# Altium footprint library TerminalBlock_Phoenix.PcbLib: 114 footprints (part 1 of 8)
Each footprint in its own frame and in the unit in brackets; x right, y up, seen from the top. Pads: shape width x height; smd on the part's side, far side on the other; paste and mask are expansions set on the pad; w line width, h text height; cw(c..) or ccw(c..) is an arc to the next point about the centre after c.
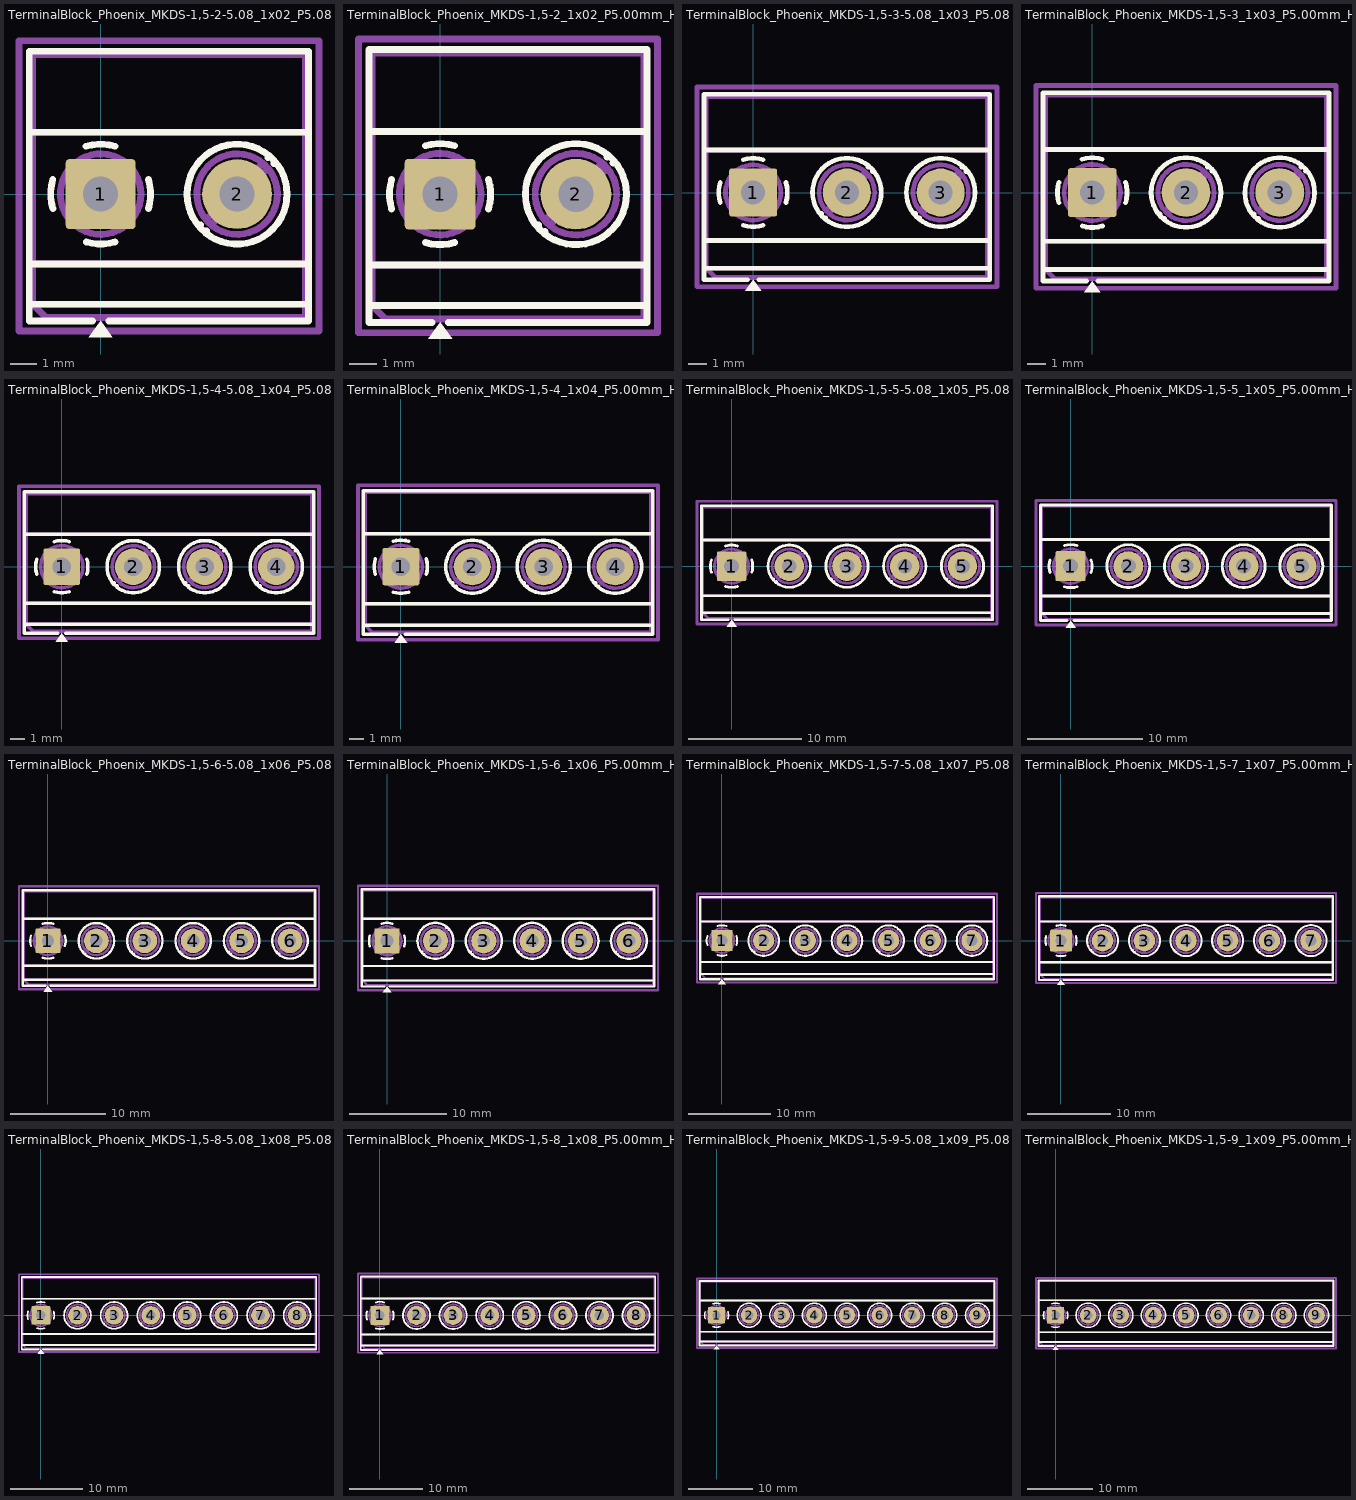
[diagram p0: the footprints below, top view; thin cyan lines are the x and y axes]

## TerminalBlock_Phoenix_MKDS-1,5-2-5.08_1x02_P5.08mm_Horizontal [mm]
pads (2):
  rrect10% 2.6x2.6 hole 1.3: 1(0,0)
  round 2.6 hole 1.3: 2(5.08,0)
F.SilkS:
  circle w0.254: c5.08,0 r1.86
  region: 0.44,-5.33 -0.44,-5.33 0,-4.72
  lines w0.254: -2.66,-4.1 7.74,-4.1 ; -2.66,-2.6 7.74,-2.6 ; -2.66,2.3 7.74,2.3 ; -1.78,-0.54 cw(c0,0) -1.78,0.539 ; -0.539,-1.78 ccw(c0,0) 0.54,-1.78 ; -0.54,1.78 cw(c0,0) 0.539,1.78 ; -0.3,-4.72 -2.66,-4.72 -2.66,5.32 7.74,5.32 7.74,-4.72 0.3,-4.72 ; 1.78,-0.539 ccw(c0,0) 1.78,0.54 ; 3.669,-1.183 3.713,-1.14 ; 3.896,-1.41 3.94,-1.367 ; 6.22,1.367 6.264,1.411 ; 6.447,1.14 6.491,1.184
F.CrtYd:
  lines w0.254: -3.04,-5.1 -3.04,5.71 8.13,5.71 8.13,-5.1 -3.04,-5.1
F.Fab:
  circle w0.254: c0,0 r1.5
  circle w0.254: c5.08,0 r1.5
  lines w0.254: -2.54,-2.6 7.62,-2.6 ; -2.54,2.3 7.62,2.3 ; -1.138,-0.954 0.955,1.138 ; -0.955,-1.137 1.138,0.954 ; 3.942,-0.954 6.035,1.138 ; 4.125,-1.137 6.218,0.954 ; 7.62,-4.1 -2.54,-4.1 ; -2.54,-4.1 -2.54,5.2 7.62,5.2 7.62,-4.6 -2.04,-4.6 -2.54,-4.1
  text "'.Designator'" at 1.101,-3.598 h1

## TerminalBlock_Phoenix_MKDS-1,5-2_1x02_P5.00mm_Horizontal [mm]
pads (2):
  rrect10% 2.6x2.6 hole 1.3: 1(0,0)
  round 2.6 hole 1.3: 2(5,0)
F.SilkS:
  circle w0.254: c5,0 r1.86
  region: 0.44,-5.33 -0.44,-5.33 0,-4.72
  lines w0.254: -2.62,-4.1 7.62,-4.1 ; -2.62,-2.6 7.62,-2.6 ; -2.62,2.3 7.62,2.3 ; -1.78,-0.54 cw(c0,0) -1.78,0.539 ; -0.539,-1.78 ccw(c0,0) 0.54,-1.78 ; -0.54,1.78 cw(c0,0) 0.539,1.78 ; -0.3,-4.72 -2.62,-4.72 -2.62,5.32 7.62,5.32 7.62,-4.72 0.3,-4.72 ; 1.78,-0.539 ccw(c0,0) 1.78,0.54 ; 3.589,-1.183 3.633,-1.14 ; 3.816,-1.41 3.86,-1.367 ; 6.14,1.367 6.184,1.411 ; 6.367,1.14 6.411,1.184
F.CrtYd:
  lines w0.254: -3,-5.1 -3,5.71 8,5.71 8,-5.1 -3,-5.1
F.Fab:
  circle w0.254: c0,0 r1.5
  circle w0.254: c5,0 r1.5
  lines w0.254: -2.5,-2.6 7.5,-2.6 ; -2.5,2.3 7.5,2.3 ; -1.138,-0.954 0.955,1.138 ; -0.955,-1.137 1.138,0.954 ; 3.862,-0.954 5.955,1.138 ; 4.045,-1.137 6.138,0.954 ; 7.5,-4.1 -2.5,-4.1 ; -2.5,-4.1 -2.5,5.2 7.5,5.2 7.5,-4.6 -2,-4.6 -2.5,-4.1
  text "'.Designator'" at 1.061,-3.598 h1

## TerminalBlock_Phoenix_MKDS-1,5-3-5.08_1x03_P5.08mm_Horizontal [mm]
pads (3):
  rrect10% 2.6x2.6 hole 1.3: 1(0,0)
  round 2.6 hole 1.3: 2(5.08,0) 3(10.16,0)
F.SilkS:
  circle w0.254: c5.08,0 r1.86
  circle w0.254: c10.16,0 r1.86
  region: 0.44,-5.33 -0.44,-5.33 0,-4.72
  lines w0.254: -2.66,-4.1 12.82,-4.1 ; -2.66,-2.6 12.82,-2.6 ; -2.66,2.3 12.82,2.3 ; -1.78,-0.54 cw(c0,0) -1.78,0.539 ; -0.539,-1.78 ccw(c0,0) 0.54,-1.78 ; -0.54,1.78 cw(c0,0) 0.539,1.78 ; -0.3,-4.72 -2.66,-4.72 -2.66,5.32 12.82,5.32 12.82,-4.72 0.3,-4.72 ; 1.78,-0.539 ccw(c0,0) 1.78,0.54 ; 3.669,-1.183 3.713,-1.14 ; 3.896,-1.41 3.94,-1.367 ; 6.22,1.367 6.264,1.411 ; 6.447,1.14 6.491,1.184 ; 8.749,-1.183 8.793,-1.14 ; 8.976,-1.41 9.02,-1.367 ; 11.3,1.367 11.344,1.411 ; 11.527,1.14 11.571,1.184
F.CrtYd:
  lines w0.254: -3.04,-5.1 -3.04,5.71 13.21,5.71 13.21,-5.1 -3.04,-5.1
F.Fab:
  circle w0.254: c0,0 r1.5
  circle w0.254: c5.08,0 r1.5
  circle w0.254: c10.16,0 r1.5
  lines w0.254: -2.54,-2.6 12.7,-2.6 ; -2.54,2.3 12.7,2.3 ; -1.138,-0.954 0.955,1.138 ; -0.955,-1.137 1.138,0.954 ; 3.942,-0.954 6.035,1.138 ; 4.125,-1.137 6.218,0.954 ; 9.022,-0.954 11.115,1.138 ; 9.205,-1.137 11.298,0.954 ; 12.7,-4.1 -2.54,-4.1 ; -2.54,-4.1 -2.54,5.2 12.7,5.2 12.7,-4.6 -2.04,-4.6 -2.54,-4.1
  text "'.Designator'" at 3.641,-3.598 h1

## TerminalBlock_Phoenix_MKDS-1,5-3_1x03_P5.00mm_Horizontal [mm]
pads (3):
  rrect10% 2.6x2.6 hole 1.3: 1(0,0)
  round 2.6 hole 1.3: 2(5,0) 3(10,0)
F.SilkS:
  circle w0.254: c5,0 r1.86
  circle w0.254: c10,0 r1.86
  region: 0.44,-5.33 -0.44,-5.33 0,-4.72
  lines w0.254: -2.62,-4.1 12.62,-4.1 ; -2.62,-2.6 12.62,-2.6 ; -2.62,2.3 12.62,2.3 ; -1.78,-0.54 cw(c0,0) -1.78,0.539 ; -0.539,-1.78 ccw(c0,0) 0.54,-1.78 ; -0.54,1.78 cw(c0,0) 0.539,1.78 ; -0.3,-4.72 -2.62,-4.72 -2.62,5.32 12.62,5.32 12.62,-4.72 0.3,-4.72 ; 1.78,-0.539 ccw(c0,0) 1.78,0.54 ; 3.589,-1.183 3.633,-1.14 ; 3.816,-1.41 3.86,-1.367 ; 6.14,1.367 6.184,1.411 ; 6.367,1.14 6.411,1.184 ; 8.589,-1.183 8.633,-1.14 ; 8.816,-1.41 8.86,-1.367 ; 11.14,1.367 11.184,1.411 ; 11.367,1.14 11.411,1.184
F.CrtYd:
  lines w0.254: -3,-5.1 -3,5.71 13,5.71 13,-5.1 -3,-5.1
F.Fab:
  circle w0.254: c0,0 r1.5
  circle w0.254: c5,0 r1.5
  circle w0.254: c10,0 r1.5
  lines w0.254: -2.5,-2.6 12.5,-2.6 ; -2.5,2.3 12.5,2.3 ; -1.138,-0.954 0.955,1.138 ; -0.955,-1.137 1.138,0.954 ; 3.862,-0.954 5.955,1.138 ; 4.045,-1.137 6.138,0.954 ; 8.862,-0.954 10.955,1.138 ; 9.045,-1.137 11.138,0.954 ; 12.5,-4.1 -2.5,-4.1 ; -2.5,-4.1 -2.5,5.2 12.5,5.2 12.5,-4.6 -2,-4.6 -2.5,-4.1
  text "'.Designator'" at 3.561,-3.598 h1

## TerminalBlock_Phoenix_MKDS-1,5-4-5.08_1x04_P5.08mm_Horizontal [mm]
pads (4):
  rrect10% 2.6x2.6 hole 1.3: 1(0,0)
  round 2.6 hole 1.3: 2(5.08,0) 3(10.16,0) 4(15.24,0)
F.SilkS:
  circle w0.254: c5.08,0 r1.86
  circle w0.254: c10.16,0 r1.86
  circle w0.254: c15.24,0 r1.86
  region: 0.44,-5.33 -0.44,-5.33 0,-4.72
  lines w0.254: -2.66,-4.1 17.9,-4.1 ; -2.66,-2.6 17.9,-2.6 ; -2.66,2.3 17.9,2.3 ; -1.78,-0.54 cw(c0,0) -1.78,0.539 ; -0.539,-1.78 ccw(c0,0) 0.54,-1.78 ; -0.54,1.78 cw(c0,0) 0.539,1.78 ; -0.3,-4.72 -2.66,-4.72 -2.66,5.32 17.9,5.32 17.9,-4.72 0.3,-4.72 ; 1.78,-0.539 ccw(c0,0) 1.78,0.54 ; 3.669,-1.183 3.713,-1.14 ; 3.896,-1.41 3.94,-1.367 ; 6.22,1.367 6.264,1.411 ; 6.447,1.14 6.491,1.184 ; 8.749,-1.183 8.793,-1.14 ; 8.976,-1.41 9.02,-1.367 ; 11.3,1.367 11.344,1.411 ; 11.527,1.14 11.571,1.184 ; 13.829,-1.183 13.873,-1.14 ; 14.056,-1.41 14.1,-1.367 ; 16.38,1.367 16.424,1.411 ; 16.607,1.14 16.651,1.184
F.CrtYd:
  lines w0.254: -3.04,-5.1 -3.04,5.71 18.28,5.71 18.28,-5.1 -3.04,-5.1
F.Fab:
  circle w0.254: c0,0 r1.5
  circle w0.254: c5.08,0 r1.5
  circle w0.254: c10.16,0 r1.5
  circle w0.254: c15.24,0 r1.5
  lines w0.254: -2.54,-2.6 17.78,-2.6 ; -2.54,2.3 17.78,2.3 ; -1.138,-0.954 0.955,1.138 ; -0.955,-1.137 1.138,0.954 ; 3.942,-0.954 6.035,1.138 ; 4.125,-1.137 6.218,0.954 ; 9.022,-0.954 11.115,1.138 ; 9.205,-1.137 11.298,0.954 ; 14.102,-0.954 16.195,1.138 ; 14.285,-1.137 16.378,0.954 ; 17.78,-4.1 -2.54,-4.1 ; -2.54,-4.1 -2.54,5.2 17.78,5.2 17.78,-4.6 -2.04,-4.6 -2.54,-4.1
  text "'.Designator'" at 6.181,-3.598 h1

## TerminalBlock_Phoenix_MKDS-1,5-4_1x04_P5.00mm_Horizontal [mm]
pads (4):
  rrect10% 2.6x2.6 hole 1.3: 1(0,0)
  round 2.6 hole 1.3: 2(5,0) 3(10,0) 4(15,0)
F.SilkS:
  circle w0.254: c5,0 r1.86
  circle w0.254: c10,0 r1.86
  circle w0.254: c15,0 r1.86
  region: 0.44,-5.33 -0.44,-5.33 0,-4.72
  lines w0.254: -2.62,-4.1 17.62,-4.1 ; -2.62,-2.6 17.62,-2.6 ; -2.62,2.3 17.62,2.3 ; -1.78,-0.54 cw(c0,0) -1.78,0.539 ; -0.539,-1.78 ccw(c0,0) 0.54,-1.78 ; -0.54,1.78 cw(c0,0) 0.539,1.78 ; -0.3,-4.72 -2.62,-4.72 -2.62,5.32 17.62,5.32 17.62,-4.72 0.3,-4.72 ; 1.78,-0.539 ccw(c0,0) 1.78,0.54 ; 3.589,-1.183 3.633,-1.14 ; 3.816,-1.41 3.86,-1.367 ; 6.14,1.367 6.184,1.411 ; 6.367,1.14 6.411,1.184 ; 8.589,-1.183 8.633,-1.14 ; 8.816,-1.41 8.86,-1.367 ; 11.14,1.367 11.184,1.411 ; 11.367,1.14 11.411,1.184 ; 13.589,-1.183 13.633,-1.14 ; 13.816,-1.41 13.86,-1.367 ; 16.14,1.367 16.184,1.411 ; 16.367,1.14 16.411,1.184
F.CrtYd:
  lines w0.254: -3,-5.1 -3,5.71 18,5.71 18,-5.1 -3,-5.1
F.Fab:
  circle w0.254: c0,0 r1.5
  circle w0.254: c5,0 r1.5
  circle w0.254: c10,0 r1.5
  circle w0.254: c15,0 r1.5
  lines w0.254: -2.5,-2.6 17.5,-2.6 ; -2.5,2.3 17.5,2.3 ; -1.138,-0.954 0.955,1.138 ; -0.955,-1.137 1.138,0.954 ; 3.862,-0.954 5.955,1.138 ; 4.045,-1.137 6.138,0.954 ; 8.862,-0.954 10.955,1.138 ; 9.045,-1.137 11.138,0.954 ; 13.862,-0.954 15.955,1.138 ; 14.045,-1.137 16.138,0.954 ; 17.5,-4.1 -2.5,-4.1 ; -2.5,-4.1 -2.5,5.2 17.5,5.2 17.5,-4.6 -2,-4.6 -2.5,-4.1
  text "'.Designator'" at 6.061,-3.598 h1

## TerminalBlock_Phoenix_MKDS-1,5-5-5.08_1x05_P5.08mm_Horizontal [mm]
pads (5):
  rrect10% 2.6x2.6 hole 1.3: 1(0,0)
  round 2.6 hole 1.3: 2(5.08,0) 3(10.16,0) 4(15.24,0) 5(20.32,0)
F.SilkS:
  circle w0.254: c5.08,0 r1.86
  circle w0.254: c10.16,0 r1.86
  circle w0.254: c15.24,0 r1.86
  circle w0.254: c20.32,0 r1.86
  region: 0.44,-5.33 -0.44,-5.33 0,-4.72
  lines w0.254: -2.66,-4.1 22.98,-4.1 ; -2.66,-2.6 22.98,-2.6 ; -2.66,2.3 22.98,2.3 ; -1.78,-0.54 cw(c0,0) -1.78,0.539 ; -0.539,-1.78 ccw(c0,0) 0.54,-1.78 ; -0.54,1.78 cw(c0,0) 0.539,1.78 ; -0.3,-4.72 -2.66,-4.72 -2.66,5.32 22.98,5.32 22.98,-4.72 0.3,-4.72 ; 1.78,-0.539 ccw(c0,0) 1.78,0.54 ; 3.669,-1.183 3.713,-1.14 ; 3.896,-1.41 3.94,-1.367 ; 6.22,1.367 6.264,1.411 ; 6.447,1.14 6.491,1.184 ; 8.749,-1.183 8.793,-1.14 ; 8.976,-1.41 9.02,-1.367 ; 11.3,1.367 11.344,1.411 ; 11.527,1.14 11.571,1.184 ; 13.829,-1.183 13.873,-1.14 ; 14.056,-1.41 14.1,-1.367 ; 16.38,1.367 16.424,1.411 ; 16.607,1.14 16.651,1.184 ; 18.909,-1.183 18.953,-1.14 ; 19.136,-1.41 19.18,-1.367 ; 21.46,1.367 21.504,1.411 ; 21.687,1.14 21.731,1.184
F.CrtYd:
  lines w0.254: -3.04,-5.1 -3.04,5.71 23.36,5.71 23.36,-5.1 -3.04,-5.1
F.Fab:
  circle w0.254: c0,0 r1.5
  circle w0.254: c5.08,0 r1.5
  circle w0.254: c10.16,0 r1.5
  circle w0.254: c15.24,0 r1.5
  circle w0.254: c20.32,0 r1.5
  lines w0.254: -2.54,-2.6 22.86,-2.6 ; -2.54,2.3 22.86,2.3 ; -1.138,-0.954 0.955,1.138 ; -0.955,-1.137 1.138,0.954 ; 3.942,-0.954 6.035,1.138 ; 4.125,-1.137 6.218,0.954 ; 9.022,-0.954 11.115,1.138 ; 9.205,-1.137 11.298,0.954 ; 14.102,-0.954 16.195,1.138 ; 14.285,-1.137 16.378,0.954 ; 19.182,-0.954 21.275,1.138 ; 19.365,-1.137 21.458,0.954 ; 22.86,-4.1 -2.54,-4.1 ; -2.54,-4.1 -2.54,5.2 22.86,5.2 22.86,-4.6 -2.04,-4.6 -2.54,-4.1
  text "'.Designator'" at 8.721,-3.598 h1

## TerminalBlock_Phoenix_MKDS-1,5-5_1x05_P5.00mm_Horizontal [mm]
pads (5):
  rrect10% 2.6x2.6 hole 1.3: 1(0,0)
  round 2.6 hole 1.3: 2(5,0) 3(10,0) 4(15,0) 5(20,0)
F.SilkS:
  circle w0.254: c5,0 r1.86
  circle w0.254: c10,0 r1.86
  circle w0.254: c15,0 r1.86
  circle w0.254: c20,0 r1.86
  region: 0.44,-5.33 -0.44,-5.33 0,-4.72
  lines w0.254: -2.62,-4.1 22.62,-4.1 ; -2.62,-2.6 22.62,-2.6 ; -2.62,2.3 22.62,2.3 ; -1.78,-0.54 cw(c0,0) -1.78,0.539 ; -0.539,-1.78 ccw(c0,0) 0.54,-1.78 ; -0.54,1.78 cw(c0,0) 0.539,1.78 ; -0.3,-4.72 -2.62,-4.72 -2.62,5.32 22.62,5.32 22.62,-4.72 0.3,-4.72 ; 1.78,-0.539 ccw(c0,0) 1.78,0.54 ; 3.589,-1.183 3.633,-1.14 ; 3.816,-1.41 3.86,-1.367 ; 6.14,1.367 6.184,1.411 ; 6.367,1.14 6.411,1.184 ; 8.589,-1.183 8.633,-1.14 ; 8.816,-1.41 8.86,-1.367 ; 11.14,1.367 11.184,1.411 ; 11.367,1.14 11.411,1.184 ; 13.589,-1.183 13.633,-1.14 ; 13.816,-1.41 13.86,-1.367 ; 16.14,1.367 16.184,1.411 ; 16.367,1.14 16.411,1.184 ; 18.589,-1.183 18.633,-1.14 ; 18.816,-1.41 18.86,-1.367 ; 21.14,1.367 21.184,1.411 ; 21.367,1.14 21.411,1.184
F.CrtYd:
  lines w0.254: -3,-5.1 -3,5.71 23,5.71 23,-5.1 -3,-5.1
F.Fab:
  circle w0.254: c0,0 r1.5
  circle w0.254: c5,0 r1.5
  circle w0.254: c10,0 r1.5
  circle w0.254: c15,0 r1.5
  circle w0.254: c20,0 r1.5
  lines w0.254: -2.5,-2.6 22.5,-2.6 ; -2.5,2.3 22.5,2.3 ; -1.138,-0.954 0.955,1.138 ; -0.955,-1.137 1.138,0.954 ; 3.862,-0.954 5.955,1.138 ; 4.045,-1.137 6.138,0.954 ; 8.862,-0.954 10.955,1.138 ; 9.045,-1.137 11.138,0.954 ; 13.862,-0.954 15.955,1.138 ; 14.045,-1.137 16.138,0.954 ; 18.862,-0.954 20.955,1.138 ; 19.045,-1.137 21.138,0.954 ; 22.5,-4.1 -2.5,-4.1 ; -2.5,-4.1 -2.5,5.2 22.5,5.2 22.5,-4.6 -2,-4.6 -2.5,-4.1
  text "'.Designator'" at 8.561,-3.598 h1

## TerminalBlock_Phoenix_MKDS-1,5-6-5.08_1x06_P5.08mm_Horizontal [mm]
pads (6):
  rrect10% 2.6x2.6 hole 1.3: 1(0,0)
  round 2.6 hole 1.3: 2(5.08,0) 3(10.16,0) 4(15.24,0) 5(20.32,0) 6(25.4,0)
F.SilkS:
  circle w0.254: c5.08,0 r1.86
  circle w0.254: c10.16,0 r1.86
  circle w0.254: c15.24,0 r1.86
  circle w0.254: c20.32,0 r1.86
  circle w0.254: c25.4,0 r1.86
  region: 0.44,-5.33 -0.44,-5.33 0,-4.72
  lines w0.254: -2.66,-4.1 28.06,-4.1 ; -2.66,-2.6 28.06,-2.6 ; -2.66,2.3 28.06,2.3 ; -1.78,-0.54 cw(c0,0) -1.78,0.539 ; -0.539,-1.78 ccw(c0,0) 0.54,-1.78 ; -0.54,1.78 cw(c0,0) 0.539,1.78 ; -0.3,-4.72 -2.66,-4.72 -2.66,5.32 28.06,5.32 28.06,-4.72 0.3,-4.72 ; 1.78,-0.539 ccw(c0,0) 1.78,0.54 ; 3.669,-1.183 3.713,-1.14 ; 3.896,-1.41 3.94,-1.367 ; 6.22,1.367 6.264,1.411 ; 6.447,1.14 6.491,1.184 ; 8.749,-1.183 8.793,-1.14 ; 8.976,-1.41 9.02,-1.367 ; 11.3,1.367 11.344,1.411 ; 11.527,1.14 11.571,1.184 ; 13.829,-1.183 13.873,-1.14 ; 14.056,-1.41 14.1,-1.367 ; 16.38,1.367 16.424,1.411 ; 16.607,1.14 16.651,1.184 ; 18.909,-1.183 18.953,-1.14 ; 19.136,-1.41 19.18,-1.367 ; 21.46,1.367 21.504,1.411 ; 21.687,1.14 21.731,1.184 ; 23.989,-1.183 24.033,-1.14 ; 24.216,-1.41 24.26,-1.367 ; 26.54,1.367 26.584,1.411 ; 26.767,1.14 26.811,1.184
F.CrtYd:
  lines w0.254: -3.04,-5.1 -3.04,5.71 28.44,5.71 28.44,-5.1 -3.04,-5.1
F.Fab:
  circle w0.254: c0,0 r1.5
  circle w0.254: c5.08,0 r1.5
  circle w0.254: c10.16,0 r1.5
  circle w0.254: c15.24,0 r1.5
  circle w0.254: c20.32,0 r1.5
  circle w0.254: c25.4,0 r1.5
  lines w0.254: -2.54,-2.6 27.94,-2.6 ; -2.54,2.3 27.94,2.3 ; -1.138,-0.954 0.955,1.138 ; -0.955,-1.137 1.138,0.954 ; 3.942,-0.954 6.035,1.138 ; 4.125,-1.137 6.218,0.954 ; 9.022,-0.954 11.115,1.138 ; 9.205,-1.137 11.298,0.954 ; 14.102,-0.954 16.195,1.138 ; 14.285,-1.137 16.378,0.954 ; 19.182,-0.954 21.275,1.138 ; 19.365,-1.137 21.458,0.954 ; 24.262,-0.954 26.355,1.138 ; 24.445,-1.137 26.538,0.954 ; 27.94,-4.1 -2.54,-4.1 ; -2.54,-4.1 -2.54,5.2 27.94,5.2 27.94,-4.6 -2.04,-4.6 -2.54,-4.1
  text "'.Designator'" at 11.261,-3.598 h1

## TerminalBlock_Phoenix_MKDS-1,5-6_1x06_P5.00mm_Horizontal [mm]
pads (6):
  rrect10% 2.6x2.6 hole 1.3: 1(0,0)
  round 2.6 hole 1.3: 2(5,0) 3(10,0) 4(15,0) 5(20,0) 6(25,0)
F.SilkS:
  circle w0.254: c5,0 r1.86
  circle w0.254: c10,0 r1.86
  circle w0.254: c15,0 r1.86
  circle w0.254: c20,0 r1.86
  circle w0.254: c25,0 r1.86
  region: 0.44,-5.33 -0.44,-5.33 0,-4.72
  lines w0.254: -2.62,-4.1 27.62,-4.1 ; -2.62,-2.6 27.62,-2.6 ; -2.62,2.3 27.62,2.3 ; -1.78,-0.54 cw(c0,0) -1.78,0.539 ; -0.539,-1.78 ccw(c0,0) 0.54,-1.78 ; -0.54,1.78 cw(c0,0) 0.539,1.78 ; -0.3,-4.72 -2.62,-4.72 -2.62,5.32 27.62,5.32 27.62,-4.72 0.3,-4.72 ; 1.78,-0.539 ccw(c0,0) 1.78,0.54 ; 3.589,-1.183 3.633,-1.14 ; 3.816,-1.41 3.86,-1.367 ; 6.14,1.367 6.184,1.411 ; 6.367,1.14 6.411,1.184 ; 8.589,-1.183 8.633,-1.14 ; 8.816,-1.41 8.86,-1.367 ; 11.14,1.367 11.184,1.411 ; 11.367,1.14 11.411,1.184 ; 13.589,-1.183 13.633,-1.14 ; 13.816,-1.41 13.86,-1.367 ; 16.14,1.367 16.184,1.411 ; 16.367,1.14 16.411,1.184 ; 18.589,-1.183 18.633,-1.14 ; 18.816,-1.41 18.86,-1.367 ; 21.14,1.367 21.184,1.411 ; 21.367,1.14 21.411,1.184 ; 23.589,-1.183 23.633,-1.14 ; 23.816,-1.41 23.86,-1.367 ; 26.14,1.367 26.184,1.411 ; 26.367,1.14 26.411,1.184
F.CrtYd:
  lines w0.254: -3,-5.1 -3,5.71 28,5.71 28,-5.1 -3,-5.1
F.Fab:
  circle w0.254: c0,0 r1.5
  circle w0.254: c5,0 r1.5
  circle w0.254: c10,0 r1.5
  circle w0.254: c15,0 r1.5
  circle w0.254: c20,0 r1.5
  circle w0.254: c25,0 r1.5
  lines w0.254: -2.5,-2.6 27.5,-2.6 ; -2.5,2.3 27.5,2.3 ; -1.138,-0.954 0.955,1.138 ; -0.955,-1.137 1.138,0.954 ; 3.862,-0.954 5.955,1.138 ; 4.045,-1.137 6.138,0.954 ; 8.862,-0.954 10.955,1.138 ; 9.045,-1.137 11.138,0.954 ; 13.862,-0.954 15.955,1.138 ; 14.045,-1.137 16.138,0.954 ; 18.862,-0.954 20.955,1.138 ; 19.045,-1.137 21.138,0.954 ; 23.862,-0.954 25.955,1.138 ; 24.045,-1.137 26.138,0.954 ; 27.5,-4.1 -2.5,-4.1 ; -2.5,-4.1 -2.5,5.2 27.5,5.2 27.5,-4.6 -2,-4.6 -2.5,-4.1
  text "'.Designator'" at 11.061,-3.598 h1

## TerminalBlock_Phoenix_MKDS-1,5-7-5.08_1x07_P5.08mm_Horizontal [mm]
pads (7):
  rrect10% 2.6x2.6 hole 1.3: 1(0,0)
  round 2.6 hole 1.3: 2(5.08,0) 3(10.16,0) 4(15.24,0) 5(20.32,0) 6(25.4,0) 7(30.48,0)
F.SilkS:
  circle w0.254: c5.08,0 r1.86
  circle w0.254: c10.16,0 r1.86
  circle w0.254: c15.24,0 r1.86
  circle w0.254: c20.32,0 r1.86
  circle w0.254: c25.4,0 r1.86
  circle w0.254: c30.48,0 r1.86
  region: 0.44,-5.33 -0.44,-5.33 0,-4.72
  lines w0.254: -2.66,-4.1 33.14,-4.1 ; -2.66,-2.6 33.14,-2.6 ; -2.66,2.3 33.14,2.3 ; -1.78,-0.54 cw(c0,0) -1.78,0.539 ; -0.539,-1.78 ccw(c0,0) 0.54,-1.78 ; -0.54,1.78 cw(c0,0) 0.539,1.78 ; -0.3,-4.72 -2.66,-4.72 -2.66,5.32 33.14,5.32 33.14,-4.72 0.3,-4.72 ; 1.78,-0.539 ccw(c0,0) 1.78,0.54 ; 3.669,-1.183 3.713,-1.14 ; 3.896,-1.41 3.94,-1.367 ; 6.22,1.367 6.264,1.411 ; 6.447,1.14 6.491,1.184 ; 8.749,-1.183 8.793,-1.14 ; 8.976,-1.41 9.02,-1.367 ; 11.3,1.367 11.344,1.411 ; 11.527,1.14 11.571,1.184 ; 13.829,-1.183 13.873,-1.14 ; 14.056,-1.41 14.1,-1.367 ; 16.38,1.367 16.424,1.411 ; 16.607,1.14 16.651,1.184 ; 18.909,-1.183 18.953,-1.14 ; 19.136,-1.41 19.18,-1.367 ; 21.46,1.367 21.504,1.411 ; 21.687,1.14 21.731,1.184 ; 23.989,-1.183 24.033,-1.14 ; 24.216,-1.41 24.26,-1.367 ; 26.54,1.367 26.584,1.411 ; 26.767,1.14 26.811,1.184 ; 29.069,-1.183 29.113,-1.14 ; 29.296,-1.41 29.34,-1.367 ; 31.62,1.367 31.664,1.411 ; 31.847,1.14 31.891,1.184
F.CrtYd:
  lines w0.254: -3.04,-5.1 -3.04,5.71 33.53,5.71 33.53,-5.1 -3.04,-5.1
F.Fab:
  circle w0.254: c0,0 r1.5
  circle w0.254: c5.08,0 r1.5
  circle w0.254: c10.16,0 r1.5
  circle w0.254: c15.24,0 r1.5
  circle w0.254: c20.32,0 r1.5
  circle w0.254: c25.4,0 r1.5
  circle w0.254: c30.48,0 r1.5
  lines w0.254: -2.54,-2.6 33.02,-2.6 ; -2.54,2.3 33.02,2.3 ; -1.138,-0.954 0.955,1.138 ; -0.955,-1.137 1.138,0.954 ; 3.942,-0.954 6.035,1.138 ; 4.125,-1.137 6.218,0.954 ; 9.022,-0.954 11.115,1.138 ; 9.205,-1.137 11.298,0.954 ; 14.102,-0.954 16.195,1.138 ; 14.285,-1.137 16.378,0.954 ; 19.182,-0.954 21.275,1.138 ; 19.365,-1.137 21.458,0.954 ; 24.262,-0.954 26.355,1.138 ; 24.445,-1.137 26.538,0.954 ; 29.342,-0.954 31.435,1.138 ; 29.525,-1.137 31.618,0.954 ; 33.02,-4.1 -2.54,-4.1 ; -2.54,-4.1 -2.54,5.2 33.02,5.2 33.02,-4.6 -2.04,-4.6 -2.54,-4.1
  text "'.Designator'" at 13.801,-3.598 h1

## TerminalBlock_Phoenix_MKDS-1,5-7_1x07_P5.00mm_Horizontal [mm]
pads (7):
  rrect10% 2.6x2.6 hole 1.3: 1(0,0)
  round 2.6 hole 1.3: 2(5,0) 3(10,0) 4(15,0) 5(20,0) 6(25,0) 7(30,0)
F.SilkS:
  circle w0.254: c5,0 r1.86
  circle w0.254: c10,0 r1.86
  circle w0.254: c15,0 r1.86
  circle w0.254: c20,0 r1.86
  circle w0.254: c25,0 r1.86
  circle w0.254: c30,0 r1.86
  region: 0.44,-5.33 -0.44,-5.33 0,-4.72
  lines w0.254: -2.62,-4.1 32.62,-4.1 ; -2.62,-2.6 32.62,-2.6 ; -2.62,2.3 32.62,2.3 ; -1.78,-0.54 cw(c0,0) -1.78,0.539 ; -0.539,-1.78 ccw(c0,0) 0.54,-1.78 ; -0.54,1.78 cw(c0,0) 0.539,1.78 ; -0.3,-4.72 -2.62,-4.72 -2.62,5.32 32.62,5.32 32.62,-4.72 0.3,-4.72 ; 1.78,-0.539 ccw(c0,0) 1.78,0.54 ; 3.589,-1.183 3.633,-1.14 ; 3.816,-1.41 3.86,-1.367 ; 6.14,1.367 6.184,1.411 ; 6.367,1.14 6.411,1.184 ; 8.589,-1.183 8.633,-1.14 ; 8.816,-1.41 8.86,-1.367 ; 11.14,1.367 11.184,1.411 ; 11.367,1.14 11.411,1.184 ; 13.589,-1.183 13.633,-1.14 ; 13.816,-1.41 13.86,-1.367 ; 16.14,1.367 16.184,1.411 ; 16.367,1.14 16.411,1.184 ; 18.589,-1.183 18.633,-1.14 ; 18.816,-1.41 18.86,-1.367 ; 21.14,1.367 21.184,1.411 ; 21.367,1.14 21.411,1.184 ; 23.589,-1.183 23.633,-1.14 ; 23.816,-1.41 23.86,-1.367 ; 26.14,1.367 26.184,1.411 ; 26.367,1.14 26.411,1.184 ; 28.589,-1.183 28.633,-1.14 ; 28.816,-1.41 28.86,-1.367 ; 31.14,1.367 31.184,1.411 ; 31.367,1.14 31.411,1.184
F.CrtYd:
  lines w0.254: -3,-5.1 -3,5.71 33,5.71 33,-5.1 -3,-5.1
F.Fab:
  circle w0.254: c0,0 r1.5
  circle w0.254: c5,0 r1.5
  circle w0.254: c10,0 r1.5
  circle w0.254: c15,0 r1.5
  circle w0.254: c20,0 r1.5
  circle w0.254: c25,0 r1.5
  circle w0.254: c30,0 r1.5
  lines w0.254: -2.5,-2.6 32.5,-2.6 ; -2.5,2.3 32.5,2.3 ; -1.138,-0.954 0.955,1.138 ; -0.955,-1.137 1.138,0.954 ; 3.862,-0.954 5.955,1.138 ; 4.045,-1.137 6.138,0.954 ; 8.862,-0.954 10.955,1.138 ; 9.045,-1.137 11.138,0.954 ; 13.862,-0.954 15.955,1.138 ; 14.045,-1.137 16.138,0.954 ; 18.862,-0.954 20.955,1.138 ; 19.045,-1.137 21.138,0.954 ; 23.862,-0.954 25.955,1.138 ; 24.045,-1.137 26.138,0.954 ; 28.862,-0.954 30.955,1.138 ; 29.045,-1.137 31.138,0.954 ; 32.5,-4.1 -2.5,-4.1 ; -2.5,-4.1 -2.5,5.2 32.5,5.2 32.5,-4.6 -2,-4.6 -2.5,-4.1
  text "'.Designator'" at 13.561,-3.598 h1

## TerminalBlock_Phoenix_MKDS-1,5-8-5.08_1x08_P5.08mm_Horizontal [mm]
pads (8):
  rrect10% 2.6x2.6 hole 1.3: 1(0,0)
  round 2.6 hole 1.3: 2(5.08,0) 3(10.16,0) 4(15.24,0) 5(20.32,0) 6(25.4,0) 7(30.48,0) 8(35.56,0)
F.SilkS:
  circle w0.254: c5.08,0 r1.86
  circle w0.254: c10.16,0 r1.86
  circle w0.254: c15.24,0 r1.86
  circle w0.254: c20.32,0 r1.86
  circle w0.254: c25.4,0 r1.86
  circle w0.254: c30.48,0 r1.86
  circle w0.254: c35.56,0 r1.86
  region: 0.44,-5.33 -0.44,-5.33 0,-4.72
  lines w0.254: -2.66,-4.1 38.22,-4.1 ; -2.66,-2.6 38.22,-2.6 ; -2.66,2.3 38.22,2.3 ; -1.78,-0.54 cw(c0,0) -1.78,0.539 ; -0.539,-1.78 ccw(c0,0) 0.54,-1.78 ; -0.54,1.78 cw(c0,0) 0.539,1.78 ; -0.3,-4.72 -2.66,-4.72 -2.66,5.32 38.22,5.32 38.22,-4.72 0.3,-4.72 ; 1.78,-0.539 ccw(c0,0) 1.78,0.54 ; 3.669,-1.183 3.713,-1.14 ; 3.896,-1.41 3.94,-1.367 ; 6.22,1.367 6.264,1.411 ; 6.447,1.14 6.491,1.184 ; 8.749,-1.183 8.793,-1.14 ; 8.976,-1.41 9.02,-1.367 ; 11.3,1.367 11.344,1.411 ; 11.527,1.14 11.571,1.184 ; 13.829,-1.183 13.873,-1.14 ; 14.056,-1.41 14.1,-1.367 ; 16.38,1.367 16.424,1.411 ; 16.607,1.14 16.651,1.184 ; 18.909,-1.183 18.953,-1.14 ; 19.136,-1.41 19.18,-1.367 ; 21.46,1.367 21.504,1.411 ; 21.687,1.14 21.731,1.184 ; 23.989,-1.183 24.033,-1.14 ; 24.216,-1.41 24.26,-1.367 ; 26.54,1.367 26.584,1.411 ; 26.767,1.14 26.811,1.184 ; 29.069,-1.183 29.113,-1.14 ; 29.296,-1.41 29.34,-1.367 ; 31.62,1.367 31.664,1.411 ; 31.847,1.14 31.891,1.184 ; 34.149,-1.183 34.193,-1.14 ; 34.376,-1.41 34.42,-1.367 ; 36.7,1.367 36.744,1.411 ; 36.927,1.14 36.971,1.184
F.CrtYd:
  lines w0.254: -3.04,-5.1 -3.04,5.71 38.6,5.71 38.6,-5.1 -3.04,-5.1
F.Fab:
  circle w0.254: c0,0 r1.5
  circle w0.254: c5.08,0 r1.5
  circle w0.254: c10.16,0 r1.5
  circle w0.254: c15.24,0 r1.5
  circle w0.254: c20.32,0 r1.5
  circle w0.254: c25.4,0 r1.5
  circle w0.254: c30.48,0 r1.5
  circle w0.254: c35.56,0 r1.5
  lines w0.254: -2.54,-2.6 38.1,-2.6 ; -2.54,2.3 38.1,2.3 ; -1.138,-0.954 0.955,1.138 ; -0.955,-1.137 1.138,0.954 ; 3.942,-0.954 6.035,1.138 ; 4.125,-1.137 6.218,0.954 ; 9.022,-0.954 11.115,1.138 ; 9.205,-1.137 11.298,0.954 ; 14.102,-0.954 16.195,1.138 ; 14.285,-1.137 16.378,0.954 ; 19.182,-0.954 21.275,1.138 ; 19.365,-1.137 21.458,0.954 ; 24.262,-0.954 26.355,1.138 ; 24.445,-1.137 26.538,0.954 ; 29.342,-0.954 31.435,1.138 ; 29.525,-1.137 31.618,0.954 ; 34.422,-0.954 36.515,1.138 ; 34.605,-1.137 36.698,0.954 ; 38.1,-4.1 -2.54,-4.1 ; -2.54,-4.1 -2.54,5.2 38.1,5.2 38.1,-4.6 -2.04,-4.6 -2.54,-4.1
  text "'.Designator'" at 16.341,-3.598 h1

## TerminalBlock_Phoenix_MKDS-1,5-8_1x08_P5.00mm_Horizontal [mm]
pads (8):
  rrect10% 2.6x2.6 hole 1.3: 1(0,0)
  round 2.6 hole 1.3: 2(5,0) 3(10,0) 4(15,0) 5(20,0) 6(25,0) 7(30,0) 8(35,0)
F.SilkS:
  circle w0.254: c5,0 r1.86
  circle w0.254: c10,0 r1.86
  circle w0.254: c15,0 r1.86
  circle w0.254: c20,0 r1.86
  circle w0.254: c25,0 r1.86
  circle w0.254: c30,0 r1.86
  circle w0.254: c35,0 r1.86
  region: 0.44,-5.33 -0.44,-5.33 0,-4.72
  lines w0.254: -2.62,-4.1 37.62,-4.1 ; -2.62,-2.6 37.62,-2.6 ; -2.62,2.3 37.62,2.3 ; -1.78,-0.54 cw(c0,0) -1.78,0.539 ; -0.539,-1.78 ccw(c0,0) 0.54,-1.78 ; -0.54,1.78 cw(c0,0) 0.539,1.78 ; -0.3,-4.72 -2.62,-4.72 -2.62,5.32 37.62,5.32 37.62,-4.72 0.3,-4.72 ; 1.78,-0.539 ccw(c0,0) 1.78,0.54 ; 3.589,-1.183 3.633,-1.14 ; 3.816,-1.41 3.86,-1.367 ; 6.14,1.367 6.184,1.411 ; 6.367,1.14 6.411,1.184 ; 8.589,-1.183 8.633,-1.14 ; 8.816,-1.41 8.86,-1.367 ; 11.14,1.367 11.184,1.411 ; 11.367,1.14 11.411,1.184 ; 13.589,-1.183 13.633,-1.14 ; 13.816,-1.41 13.86,-1.367 ; 16.14,1.367 16.184,1.411 ; 16.367,1.14 16.411,1.184 ; 18.589,-1.183 18.633,-1.14 ; 18.816,-1.41 18.86,-1.367 ; 21.14,1.367 21.184,1.411 ; 21.367,1.14 21.411,1.184 ; 23.589,-1.183 23.633,-1.14 ; 23.816,-1.41 23.86,-1.367 ; 26.14,1.367 26.184,1.411 ; 26.367,1.14 26.411,1.184 ; 28.589,-1.183 28.633,-1.14 ; 28.816,-1.41 28.86,-1.367 ; 31.14,1.367 31.184,1.411 ; 31.367,1.14 31.411,1.184 ; 33.589,-1.183 33.633,-1.14 ; 33.816,-1.41 33.86,-1.367 ; 36.14,1.367 36.184,1.411 ; 36.367,1.14 36.411,1.184
F.CrtYd:
  lines w0.254: -3,-5.1 -3,5.71 38,5.71 38,-5.1 -3,-5.1
F.Fab:
  circle w0.254: c0,0 r1.5
  circle w0.254: c5,0 r1.5
  circle w0.254: c10,0 r1.5
  circle w0.254: c15,0 r1.5
  circle w0.254: c20,0 r1.5
  circle w0.254: c25,0 r1.5
  circle w0.254: c30,0 r1.5
  circle w0.254: c35,0 r1.5
  lines w0.254: -2.5,-2.6 37.5,-2.6 ; -2.5,2.3 37.5,2.3 ; -1.138,-0.954 0.955,1.138 ; -0.955,-1.137 1.138,0.954 ; 3.862,-0.954 5.955,1.138 ; 4.045,-1.137 6.138,0.954 ; 8.862,-0.954 10.955,1.138 ; 9.045,-1.137 11.138,0.954 ; 13.862,-0.954 15.955,1.138 ; 14.045,-1.137 16.138,0.954 ; 18.862,-0.954 20.955,1.138 ; 19.045,-1.137 21.138,0.954 ; 23.862,-0.954 25.955,1.138 ; 24.045,-1.137 26.138,0.954 ; 28.862,-0.954 30.955,1.138 ; 29.045,-1.137 31.138,0.954 ; 33.862,-0.954 35.955,1.138 ; 34.045,-1.137 36.138,0.954 ; 37.5,-4.1 -2.5,-4.1 ; -2.5,-4.1 -2.5,5.2 37.5,5.2 37.5,-4.6 -2,-4.6 -2.5,-4.1
  text "'.Designator'" at 16.061,-3.598 h1

## TerminalBlock_Phoenix_MKDS-1,5-9-5.08_1x09_P5.08mm_Horizontal [mm]
pads (9):
  rrect10% 2.6x2.6 hole 1.3: 1(0,0)
  round 2.6 hole 1.3: 2(5.08,0) 3(10.16,0) 4(15.24,0) 5(20.32,0) 6(25.4,0) 7(30.48,0) 8(35.56,0) 9(40.64,0)
F.SilkS:
  circle w0.254: c5.08,0 r1.86
  circle w0.254: c10.16,0 r1.86
  circle w0.254: c15.24,0 r1.86
  circle w0.254: c20.32,0 r1.86
  circle w0.254: c25.4,0 r1.86
  circle w0.254: c30.48,0 r1.86
  circle w0.254: c35.56,0 r1.86
  circle w0.254: c40.64,0 r1.86
  region: 0.44,-5.33 -0.44,-5.33 0,-4.72
  lines w0.254: -2.66,-4.1 43.3,-4.1 ; -2.66,-2.6 43.3,-2.6 ; -2.66,2.3 43.3,2.3 ; -1.78,-0.54 cw(c0,0) -1.78,0.539 ; -0.539,-1.78 ccw(c0,0) 0.54,-1.78 ; -0.54,1.78 cw(c0,0) 0.539,1.78 ; -0.3,-4.72 -2.66,-4.72 -2.66,5.32 43.3,5.32 43.3,-4.72 0.3,-4.72 ; 1.78,-0.539 ccw(c0,0) 1.78,0.54 ; 3.669,-1.183 3.713,-1.14 ; 3.896,-1.41 3.94,-1.367 ; 6.22,1.367 6.264,1.411 ; 6.447,1.14 6.491,1.184 ; 8.749,-1.183 8.793,-1.14 ; 8.976,-1.41 9.02,-1.367 ; 11.3,1.367 11.344,1.411 ; 11.527,1.14 11.571,1.184 ; 13.829,-1.183 13.873,-1.14 ; 14.056,-1.41 14.1,-1.367 ; 16.38,1.367 16.424,1.411 ; 16.607,1.14 16.651,1.184 ; 18.909,-1.183 18.953,-1.14 ; 19.136,-1.41 19.18,-1.367 ; 21.46,1.367 21.504,1.411 ; 21.687,1.14 21.731,1.184 ; 23.989,-1.183 24.033,-1.14 ; 24.216,-1.41 24.26,-1.367 ; 26.54,1.367 26.584,1.411 ; 26.767,1.14 26.811,1.184 ; 29.069,-1.183 29.113,-1.14 ; 29.296,-1.41 29.34,-1.367 ; 31.62,1.367 31.664,1.411 ; 31.847,1.14 31.891,1.184 ; 34.149,-1.183 34.193,-1.14 ; 34.376,-1.41 34.42,-1.367 ; 36.7,1.367 36.744,1.411 ; 36.927,1.14 36.971,1.184 ; 39.229,-1.183 39.273,-1.14 ; 39.456,-1.41 39.5,-1.367 ; 41.78,1.367 41.824,1.411 ; 42.007,1.14 42.051,1.184
F.CrtYd:
  lines w0.254: -3.04,-5.1 -3.04,5.71 43.68,5.71 43.68,-5.1 -3.04,-5.1
F.Fab:
  circle w0.254: c0,0 r1.5
  circle w0.254: c5.08,0 r1.5
  circle w0.254: c10.16,0 r1.5
  circle w0.254: c15.24,0 r1.5
  circle w0.254: c20.32,0 r1.5
  circle w0.254: c25.4,0 r1.5
  circle w0.254: c30.48,0 r1.5
  circle w0.254: c35.56,0 r1.5
  circle w0.254: c40.64,0 r1.5
  lines w0.254: -2.54,-2.6 43.18,-2.6 ; -2.54,2.3 43.18,2.3 ; -1.138,-0.954 0.955,1.138 ; -0.955,-1.137 1.138,0.954 ; 3.942,-0.954 6.035,1.138 ; 4.125,-1.137 6.218,0.954 ; 9.022,-0.954 11.115,1.138 ; 9.205,-1.137 11.298,0.954 ; 14.102,-0.954 16.195,1.138 ; 14.285,-1.137 16.378,0.954 ; 19.182,-0.954 21.275,1.138 ; 19.365,-1.137 21.458,0.954 ; 24.262,-0.954 26.355,1.138 ; 24.445,-1.137 26.538,0.954 ; 29.342,-0.954 31.435,1.138 ; 29.525,-1.137 31.618,0.954 ; 34.422,-0.954 36.515,1.138 ; 34.605,-1.137 36.698,0.954 ; 39.502,-0.954 41.595,1.138 ; 39.685,-1.137 41.778,0.954 ; 43.18,-4.1 -2.54,-4.1 ; -2.54,-4.1 -2.54,5.2 43.18,5.2 43.18,-4.6 -2.04,-4.6 -2.54,-4.1
  text "'.Designator'" at 18.881,-3.598 h1

## TerminalBlock_Phoenix_MKDS-1,5-9_1x09_P5.00mm_Horizontal [mm]
pads (9):
  rrect10% 2.6x2.6 hole 1.3: 1(0,0)
  round 2.6 hole 1.3: 2(5,0) 3(10,0) 4(15,0) 5(20,0) 6(25,0) 7(30,0) 8(35,0) 9(40,0)
F.SilkS:
  circle w0.254: c5,0 r1.86
  circle w0.254: c10,0 r1.86
  circle w0.254: c15,0 r1.86
  circle w0.254: c20,0 r1.86
  circle w0.254: c25,0 r1.86
  circle w0.254: c30,0 r1.86
  circle w0.254: c35,0 r1.86
  circle w0.254: c40,0 r1.86
  region: 0.44,-5.33 -0.44,-5.33 0,-4.72
  lines w0.254: -2.62,-4.1 42.62,-4.1 ; -2.62,-2.6 42.62,-2.6 ; -2.62,2.3 42.62,2.3 ; -1.78,-0.54 cw(c0,0) -1.78,0.539 ; -0.539,-1.78 ccw(c0,0) 0.54,-1.78 ; -0.54,1.78 cw(c0,0) 0.539,1.78 ; -0.3,-4.72 -2.62,-4.72 -2.62,5.32 42.62,5.32 42.62,-4.72 0.3,-4.72 ; 1.78,-0.539 ccw(c0,0) 1.78,0.54 ; 3.589,-1.183 3.633,-1.14 ; 3.816,-1.41 3.86,-1.367 ; 6.14,1.367 6.184,1.411 ; 6.367,1.14 6.411,1.184 ; 8.589,-1.183 8.633,-1.14 ; 8.816,-1.41 8.86,-1.367 ; 11.14,1.367 11.184,1.411 ; 11.367,1.14 11.411,1.184 ; 13.589,-1.183 13.633,-1.14 ; 13.816,-1.41 13.86,-1.367 ; 16.14,1.367 16.184,1.411 ; 16.367,1.14 16.411,1.184 ; 18.589,-1.183 18.633,-1.14 ; 18.816,-1.41 18.86,-1.367 ; 21.14,1.367 21.184,1.411 ; 21.367,1.14 21.411,1.184 ; 23.589,-1.183 23.633,-1.14 ; 23.816,-1.41 23.86,-1.367 ; 26.14,1.367 26.184,1.411 ; 26.367,1.14 26.411,1.184 ; 28.589,-1.183 28.633,-1.14 ; 28.816,-1.41 28.86,-1.367 ; 31.14,1.367 31.184,1.411 ; 31.367,1.14 31.411,1.184 ; 33.589,-1.183 33.633,-1.14 ; 33.816,-1.41 33.86,-1.367 ; 36.14,1.367 36.184,1.411 ; 36.367,1.14 36.411,1.184 ; 38.589,-1.183 38.633,-1.14 ; 38.816,-1.41 38.86,-1.367 ; 41.14,1.367 41.184,1.411 ; 41.367,1.14 41.411,1.184
F.CrtYd:
  lines w0.254: -3,-5.1 -3,5.71 43,5.71 43,-5.1 -3,-5.1
F.Fab:
  circle w0.254: c0,0 r1.5
  circle w0.254: c5,0 r1.5
  circle w0.254: c10,0 r1.5
  circle w0.254: c15,0 r1.5
  circle w0.254: c20,0 r1.5
  circle w0.254: c25,0 r1.5
  circle w0.254: c30,0 r1.5
  circle w0.254: c35,0 r1.5
  circle w0.254: c40,0 r1.5
  lines w0.254: -2.5,-2.6 42.5,-2.6 ; -2.5,2.3 42.5,2.3 ; -1.138,-0.954 0.955,1.138 ; -0.955,-1.137 1.138,0.954 ; 3.862,-0.954 5.955,1.138 ; 4.045,-1.137 6.138,0.954 ; 8.862,-0.954 10.955,1.138 ; 9.045,-1.137 11.138,0.954 ; 13.862,-0.954 15.955,1.138 ; 14.045,-1.137 16.138,0.954 ; 18.862,-0.954 20.955,1.138 ; 19.045,-1.137 21.138,0.954 ; 23.862,-0.954 25.955,1.138 ; 24.045,-1.137 26.138,0.954 ; 28.862,-0.954 30.955,1.138 ; 29.045,-1.137 31.138,0.954 ; 33.862,-0.954 35.955,1.138 ; 34.045,-1.137 36.138,0.954 ; 38.862,-0.954 40.955,1.138 ; 39.045,-1.137 41.138,0.954 ; 42.5,-4.1 -2.5,-4.1 ; -2.5,-4.1 -2.5,5.2 42.5,5.2 42.5,-4.6 -2,-4.6 -2.5,-4.1
  text "'.Designator'" at 18.561,-3.598 h1